# Altium schematic symbol library Graphical.SchLib: 7 symbols
Pins are listed as number, name and electrical type; pins without a type are passive.

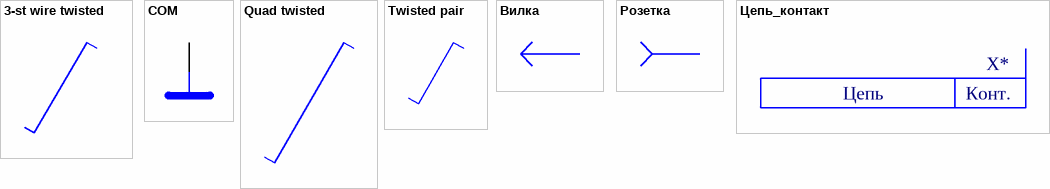
[diagram p0: symbols 3-st wire twisted to Цепь_контакт]

## 3-st wire twisted
designator *  (value not drawn)  (graphical)
Свив 3-х проводов

## COM
designator *  (value not drawn)  (no BOM)
Соединение с корпусом
pins: 0

## Quad twisted
designator *  (value not drawn)  (graphical)
Свив 4-х проводов ВЧ-четвёрка

## Twisted pair
designator *  (value not drawn)  (graphical)
Свив 2-х проводов

## Вилка
designator *  (graphical)
Вилка для заголовка соединителей

## Розетка
designator *  (graphical)
Розетка для заголовка соединителей

## Цепь_контакт
designator *  Connect Designator: X*  (graphical)
Заголовок соединителей
text: Цепь; Конт.